# Altium integrated library Linear Technology Power Management Switching Regulator LTC1174-LTC3901.IntLib: 2647 symbols (part 220 of 364)
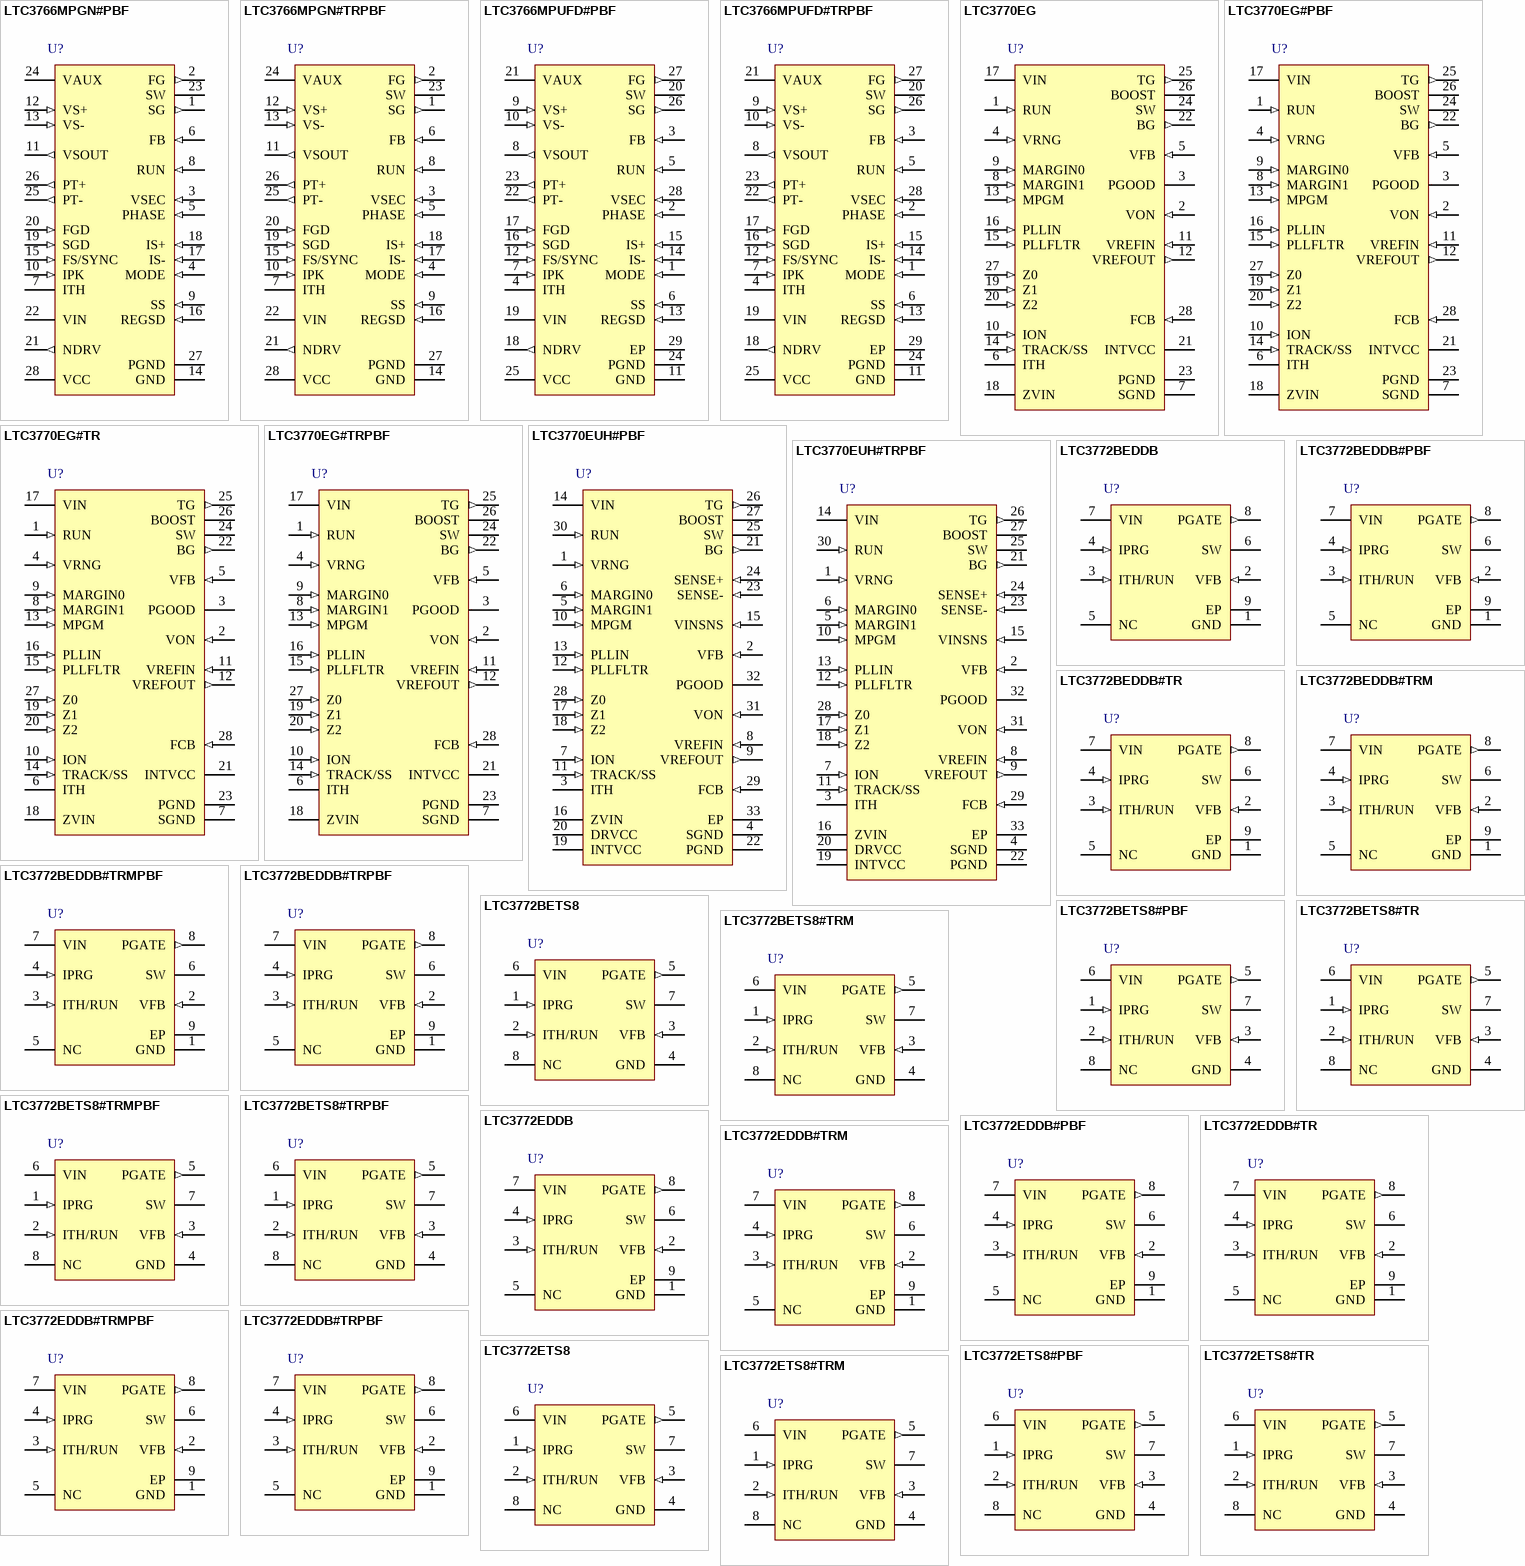
[diagram p229: symbols LTC3766MPGN#PBF to LTC3772ETS8#TRM]

## LTC3770EG#PBF
designator U?
Fast No Rsense Step-Down Synchronous Controller with Margining, Tracking and PLL, 28-pin SOP (G-28), -40 to 85 degC, Pb-Free; Manufacturer: Linear Technology; PartNumber: LTC3770EG#PBF; Frequency Sync Range: Up to 1MHz; Number of Outputs: 1; DatasheetVersion: Rev. C; PackageVersion: Jun-10; PackageReference: G-28; PackageDescription: 28-Pin Plastic SSOP, Body 10.2 x 5.3 mm, Pitch 0.65 mm; Supplier 1: Digi-Key; Supplier Part Number 1: LTC3770EG#PBF-ND; Supplier 2: Newark; Supplier Part Number 2: 56M8358; RoHS: TRUE; Mounting Technology: Surface Mount; ComponentLink1Description: Manufacturer URL; ComponentLink1URL: http://www.linear.com/; ComponentLink2Description: Datasheet; ComponentLink2URL: http://cds.linear.com/docs/en/datasheet/3770fc.pdf; ComponentLink3Description: Package Specification; ComponentLink3URL: http://cds.linear.com/docs/en/packaging/SSOP_28_05-08-1640.pdf
footprint LT-G-28_N (SOP, 28-Leads, Body 10.2x5.3mm, Pitch 0.65mm, IPC Medium Density)
footprint LT-G-28_L (SOP, 28-Leads, Body 10.2x5.3mm, Pitch 0.65mm, IPC High Density)
footprint LT-G-28_M (SOP, 28-Leads, Body 10.2x5.3mm, Pitch 0.65mm, IPC Low Density)
pins: 1 RUN (in) "Run Control Input. A voltage above 1.5V turns on the IC. Forcing this pin below 1.5V shuts down the device.", 2 VON (in) "On-Time Voltage Input. Connecting this pin to the output voltage makes the on-time proportional to VOUT. The comparator input defaults to 0.6V when the pin is grounded and defaults to 4.8V when the pin is tied to INTVCC.", 3 PGOOD (oc) "Power Good Output. Open drain logic output that is pulled to ground when the output voltage is not within +/-10% of the regulation point, after the internal 25us power bad mask timer expires.", 4 VRNG (in) "Sense Voltage Range Input. The voltage at this pin is ten times the nominal sense voltage at maximum output current and can be set from 0.5V to 2V by a resistive divider from INTVCC. The nominal sense voltage defaults to (See Datasheet)", 5 VFB (in) "Error Amplifier Feedback Input. This pin connects the error amplifier input to an external resistive divider from VOUT.", 6 ITH "Current Control Threshold and Error Amplifier Compensation Point. The current comparator threshold increases with this control voltage. The voltage ranges from 0V to 2.4V with 0.75V corresponding to zero sense voltage (zero (See Datasheet)", 7 SGND (power) "Signal Ground. All small-signal components and compensation components should connect to this ground, which in turn connects to PGND at one point.", 8 MARGIN1 (in) "The MSB Logic Input for the Margining Function. Together with the MARGIN0 pin determines whether the IC is in margin high, margin low, or no margin state. This pin has a 50k internal pull-down resistor.", 9 MARGIN0 (in) "The LSB Logic Input for the Margining Function. Together with the MARGIN1 pin determines whether the IC is in margin high, margin low, or no margin state. This pin has a 50k internal pull-down resistor.", 10 ION (in) "On-Time Current Input. Tie a resistor from this pin to ground to set the one-shot timer current and thereby set the switching frequency.", 11 VREFIN (in) "Error Amplifier Reference Input. The voltage at this pin must be greater than 0.5V and less than 1V.", 12 VREFOUT (out) "Buffered Internal 0.6V Reference Output. The maximum current sinking limit is 50uA at this pin. Do not put a filter capacitor larger than 100pF on this pin.", 13 MPGM (in) "Programmable Margining Input. A resistor from this pin to ground sets the margining current. This current, together with the resistor between the VREFOUT and VREFIN pins, determines the margining voltage offset.", 14 TRACK/SS (in) "Output Voltage Tracking and Soft-Start Input. When the IC is confi gured to be the master of two outputs, a capacitor to ground at this pin sets the ramp rate for the output voltage. When the IC is configured to be the slave (See Datasheet)", 15 PLLFLTR (in) "The Phase-Locked Loop’s Lowpass Filter is Tied to This Pin. The voltage at this pin defaults to 1.18V when the IC is not synchronized with an external clock at the PLLIN pin.", 16 PLLIN (in) "External Synchronization Input to Phase Detector. This pin is internally terminated to SGND with a 50k resistor.", 17 VIN (power) "Main Input Supply. Decouple this pin to PGND with a capacitor (0.1uF to 1uF).", 18 ZVIN (power) "Post-Package Zener-Trim Voltage Input. Under normal conditions this pin should always be connected to INTVCC.", 19 Z1 (in) "Post-Package Zener-Trim Control. This pin is a multifunctional pin used in production for post-package trimming and tracking. Ground this pin under normal soft-start operation. Connecting this pin to INTVCC will turn off the (See Datasheet)", 20 Z2 (in) "Post-Package Zener-Trim Control. This pin is used in production for Post-Package trimming. Ground this pin or tie to INTVCC under normal operation.", 21 INTVCC (power) "Internal 5V Regulator Output. The control circuits are powered from this voltage. Decouple this pin to PGND with a minimum of 4.7uF low ESR tantalum or ceramic capacitor.", 22 BG (out) "Bottom Gate Driver Output. This pin drives the gate of the bottom N-channel MOSFET between ground and INTVCC.", 23 PGND (power) "Power Ground. Connect this pin closely to the source of the bottom N-channel MOSFET, the (-) terminal of CVCC and the (-) terminal of CIN.", 24 SW "Switch Node. The (-) terminal of the boot-strap capacitor CB connects here. This pin swings from a diode voltage drop below ground up to VIN.", 25 TG (out) "Top Gate Drive Output. This pin drives the top N-channel MOSFET with a voltage swing equal to INTVCC, superimposed on the switch node voltage SW.", 26 BOOST "Boosted Floating Driver Supply. The (+) terminal of the boot-strap capacitor CB connects here. This pin swings from a diode voltage drop below INTVCC up to VIN + INTVCC.", 27 Z0 (in) "Dead Time Control Input. Applying a DC voltage will vary the dead time between TG-Low and BG-High transition. Do not force a voltage higher than 5V on this pin.", 28 FCB (in) "Forced Continuous Input. Connect this pin to SGND to forced continuous synchronization operation at low load, to INTVCC to enable discontinuous mode operation at low load or to a resistive divider from a secondary output (See Datasheet)"

## LTC3770EG#TR
designator U?
Fast No Rsense Step-Down Synchronous Controller with Margining, Tracking and PLL, 28-pin SOP (G-28), -40 to 85 degC, Tape and Reel; Manufacturer: Linear Technology; PartNumber: LTC3770EG#TR; Frequency Sync Range: Up to 1MHz; Number of Outputs: 1; DatasheetVersion: Rev. C; PackageVersion: Jun-10; PackageReference: G-28; PackageDescription: 28-Pin Plastic SSOP, Body 10.2 x 5.3 mm, Pitch 0.65 mm; Packing: Tape and Reel; RoHS: FALSE; Mounting Technology: Surface Mount; ComponentLink1Description: Manufacturer URL; ComponentLink1URL: http://www.linear.com/; ComponentLink2Description: Datasheet; ComponentLink2URL: http://cds.linear.com/docs/en/datasheet/3770fc.pdf; ComponentLink3Description: Package Specification; ComponentLink3URL: http://cds.linear.com/docs/en/packaging/SSOP_28_05-08-1640.pdf
footprint LT-G-28_N (SOP, 28-Leads, Body 10.2x5.3mm, Pitch 0.65mm, IPC Medium Density)
footprint LT-G-28_L (SOP, 28-Leads, Body 10.2x5.3mm, Pitch 0.65mm, IPC High Density)
footprint LT-G-28_M (SOP, 28-Leads, Body 10.2x5.3mm, Pitch 0.65mm, IPC Low Density)
pins: 1 RUN (in) "Run Control Input. A voltage above 1.5V turns on the IC. Forcing this pin below 1.5V shuts down the device.", 2 VON (in) "On-Time Voltage Input. Connecting this pin to the output voltage makes the on-time proportional to VOUT. The comparator input defaults to 0.6V when the pin is grounded and defaults to 4.8V when the pin is tied to INTVCC.", 3 PGOOD (oc) "Power Good Output. Open drain logic output that is pulled to ground when the output voltage is not within +/-10% of the regulation point, after the internal 25us power bad mask timer expires.", 4 VRNG (in) "Sense Voltage Range Input. The voltage at this pin is ten times the nominal sense voltage at maximum output current and can be set from 0.5V to 2V by a resistive divider from INTVCC. The nominal sense voltage defaults to (See Datasheet)", 5 VFB (in) "Error Amplifier Feedback Input. This pin connects the error amplifier input to an external resistive divider from VOUT.", 6 ITH "Current Control Threshold and Error Amplifier Compensation Point. The current comparator threshold increases with this control voltage. The voltage ranges from 0V to 2.4V with 0.75V corresponding to zero sense voltage (zero (See Datasheet)", 7 SGND (power) "Signal Ground. All small-signal components and compensation components should connect to this ground, which in turn connects to PGND at one point.", 8 MARGIN1 (in) "The MSB Logic Input for the Margining Function. Together with the MARGIN0 pin determines whether the IC is in margin high, margin low, or no margin state. This pin has a 50k internal pull-down resistor.", 9 MARGIN0 (in) "The LSB Logic Input for the Margining Function. Together with the MARGIN1 pin determines whether the IC is in margin high, margin low, or no margin state. This pin has a 50k internal pull-down resistor.", 10 ION (in) "On-Time Current Input. Tie a resistor from this pin to ground to set the one-shot timer current and thereby set the switching frequency.", 11 VREFIN (in) "Error Amplifier Reference Input. The voltage at this pin must be greater than 0.5V and less than 1V.", 12 VREFOUT (out) "Buffered Internal 0.6V Reference Output. The maximum current sinking limit is 50uA at this pin. Do not put a filter capacitor larger than 100pF on this pin.", 13 MPGM (in) "Programmable Margining Input. A resistor from this pin to ground sets the margining current. This current, together with the resistor between the VREFOUT and VREFIN pins, determines the margining voltage offset.", 14 TRACK/SS (in) "Output Voltage Tracking and Soft-Start Input. When the IC is confi gured to be the master of two outputs, a capacitor to ground at this pin sets the ramp rate for the output voltage. When the IC is configured to be the slave (See Datasheet)", 15 PLLFLTR (in) "The Phase-Locked Loop’s Lowpass Filter is Tied to This Pin. The voltage at this pin defaults to 1.18V when the IC is not synchronized with an external clock at the PLLIN pin.", 16 PLLIN (in) "External Synchronization Input to Phase Detector. This pin is internally terminated to SGND with a 50k resistor.", 17 VIN (power) "Main Input Supply. Decouple this pin to PGND with a capacitor (0.1uF to 1uF).", 18 ZVIN (power) "Post-Package Zener-Trim Voltage Input. Under normal conditions this pin should always be connected to INTVCC.", 19 Z1 (in) "Post-Package Zener-Trim Control. This pin is a multifunctional pin used in production for post-package trimming and tracking. Ground this pin under normal soft-start operation. Connecting this pin to INTVCC will turn off the (See Datasheet)", 20 Z2 (in) "Post-Package Zener-Trim Control. This pin is used in production for Post-Package trimming. Ground this pin or tie to INTVCC under normal operation.", 21 INTVCC (power) "Internal 5V Regulator Output. The control circuits are powered from this voltage. Decouple this pin to PGND with a minimum of 4.7uF low ESR tantalum or ceramic capacitor.", 22 BG (out) "Bottom Gate Driver Output. This pin drives the gate of the bottom N-channel MOSFET between ground and INTVCC.", 23 PGND (power) "Power Ground. Connect this pin closely to the source of the bottom N-channel MOSFET, the (-) terminal of CVCC and the (-) terminal of CIN.", 24 SW "Switch Node. The (-) terminal of the boot-strap capacitor CB connects here. This pin swings from a diode voltage drop below ground up to VIN.", 25 TG (out) "Top Gate Drive Output. This pin drives the top N-channel MOSFET with a voltage swing equal to INTVCC, superimposed on the switch node voltage SW.", 26 BOOST "Boosted Floating Driver Supply. The (+) terminal of the boot-strap capacitor CB connects here. This pin swings from a diode voltage drop below INTVCC up to VIN + INTVCC.", 27 Z0 (in) "Dead Time Control Input. Applying a DC voltage will vary the dead time between TG-Low and BG-High transition. Do not force a voltage higher than 5V on this pin.", 28 FCB (in) "Forced Continuous Input. Connect this pin to SGND to forced continuous synchronization operation at low load, to INTVCC to enable discontinuous mode operation at low load or to a resistive divider from a secondary output (See Datasheet)"

## LTC3770EG#TRPBF
designator U?
Fast No Rsense Step-Down Synchronous Controller with Margining, Tracking and PLL, 28-pin SOP (G-28), -40 to 85 degC, Pb-Free, Tape and Reel; Manufacturer: Linear Technology; PartNumber: LTC3770EG#TRPBF; Frequency Sync Range: Up to 1MHz; Number of Outputs: 1; DatasheetVersion: Rev. C; PackageVersion: Jun-10; PackageReference: G-28; PackageDescription: 28-Pin Plastic SSOP, Body 10.2 x 5.3 mm, Pitch 0.65 mm; Supplier 1: Digi-Key; Supplier Part Number 1: LTC3770EG#TRPBF-ND; Packing: Tape and Reel; RoHS: TRUE; Mounting Technology: Surface Mount; ComponentLink1Description: Manufacturer URL; ComponentLink1URL: http://www.linear.com/; ComponentLink2Description: Datasheet; ComponentLink2URL: http://cds.linear.com/docs/en/datasheet/3770fc.pdf; ComponentLink3Description: Package Specification; ComponentLink3URL: http://cds.linear.com/docs/en/packaging/SSOP_28_05-08-1640.pdf
footprint LT-G-28_N (SOP, 28-Leads, Body 10.2x5.3mm, Pitch 0.65mm, IPC Medium Density)
footprint LT-G-28_L (SOP, 28-Leads, Body 10.2x5.3mm, Pitch 0.65mm, IPC High Density)
footprint LT-G-28_M (SOP, 28-Leads, Body 10.2x5.3mm, Pitch 0.65mm, IPC Low Density)
pins: 1 RUN (in) "Run Control Input. A voltage above 1.5V turns on the IC. Forcing this pin below 1.5V shuts down the device.", 2 VON (in) "On-Time Voltage Input. Connecting this pin to the output voltage makes the on-time proportional to VOUT. The comparator input defaults to 0.6V when the pin is grounded and defaults to 4.8V when the pin is tied to INTVCC.", 3 PGOOD (oc) "Power Good Output. Open drain logic output that is pulled to ground when the output voltage is not within +/-10% of the regulation point, after the internal 25us power bad mask timer expires.", 4 VRNG (in) "Sense Voltage Range Input. The voltage at this pin is ten times the nominal sense voltage at maximum output current and can be set from 0.5V to 2V by a resistive divider from INTVCC. The nominal sense voltage defaults to (See Datasheet)", 5 VFB (in) "Error Amplifier Feedback Input. This pin connects the error amplifier input to an external resistive divider from VOUT.", 6 ITH "Current Control Threshold and Error Amplifier Compensation Point. The current comparator threshold increases with this control voltage. The voltage ranges from 0V to 2.4V with 0.75V corresponding to zero sense voltage (zero (See Datasheet)", 7 SGND (power) "Signal Ground. All small-signal components and compensation components should connect to this ground, which in turn connects to PGND at one point.", 8 MARGIN1 (in) "The MSB Logic Input for the Margining Function. Together with the MARGIN0 pin determines whether the IC is in margin high, margin low, or no margin state. This pin has a 50k internal pull-down resistor.", 9 MARGIN0 (in) "The LSB Logic Input for the Margining Function. Together with the MARGIN1 pin determines whether the IC is in margin high, margin low, or no margin state. This pin has a 50k internal pull-down resistor.", 10 ION (in) "On-Time Current Input. Tie a resistor from this pin to ground to set the one-shot timer current and thereby set the switching frequency.", 11 VREFIN (in) "Error Amplifier Reference Input. The voltage at this pin must be greater than 0.5V and less than 1V.", 12 VREFOUT (out) "Buffered Internal 0.6V Reference Output. The maximum current sinking limit is 50uA at this pin. Do not put a filter capacitor larger than 100pF on this pin.", 13 MPGM (in) "Programmable Margining Input. A resistor from this pin to ground sets the margining current. This current, together with the resistor between the VREFOUT and VREFIN pins, determines the margining voltage offset.", 14 TRACK/SS (in) "Output Voltage Tracking and Soft-Start Input. When the IC is confi gured to be the master of two outputs, a capacitor to ground at this pin sets the ramp rate for the output voltage. When the IC is configured to be the slave (See Datasheet)", 15 PLLFLTR (in) "The Phase-Locked Loop’s Lowpass Filter is Tied to This Pin. The voltage at this pin defaults to 1.18V when the IC is not synchronized with an external clock at the PLLIN pin.", 16 PLLIN (in) "External Synchronization Input to Phase Detector. This pin is internally terminated to SGND with a 50k resistor.", 17 VIN (power) "Main Input Supply. Decouple this pin to PGND with a capacitor (0.1uF to 1uF).", 18 ZVIN (power) "Post-Package Zener-Trim Voltage Input. Under normal conditions this pin should always be connected to INTVCC.", 19 Z1 (in) "Post-Package Zener-Trim Control. This pin is a multifunctional pin used in production for post-package trimming and tracking. Ground this pin under normal soft-start operation. Connecting this pin to INTVCC will turn off the (See Datasheet)", 20 Z2 (in) "Post-Package Zener-Trim Control. This pin is used in production for Post-Package trimming. Ground this pin or tie to INTVCC under normal operation.", 21 INTVCC (power) "Internal 5V Regulator Output. The control circuits are powered from this voltage. Decouple this pin to PGND with a minimum of 4.7uF low ESR tantalum or ceramic capacitor.", 22 BG (out) "Bottom Gate Driver Output. This pin drives the gate of the bottom N-channel MOSFET between ground and INTVCC.", 23 PGND (power) "Power Ground. Connect this pin closely to the source of the bottom N-channel MOSFET, the (-) terminal of CVCC and the (-) terminal of CIN.", 24 SW "Switch Node. The (-) terminal of the boot-strap capacitor CB connects here. This pin swings from a diode voltage drop below ground up to VIN.", 25 TG (out) "Top Gate Drive Output. This pin drives the top N-channel MOSFET with a voltage swing equal to INTVCC, superimposed on the switch node voltage SW.", 26 BOOST "Boosted Floating Driver Supply. The (+) terminal of the boot-strap capacitor CB connects here. This pin swings from a diode voltage drop below INTVCC up to VIN + INTVCC.", 27 Z0 (in) "Dead Time Control Input. Applying a DC voltage will vary the dead time between TG-Low and BG-High transition. Do not force a voltage higher than 5V on this pin.", 28 FCB (in) "Forced Continuous Input. Connect this pin to SGND to forced continuous synchronization operation at low load, to INTVCC to enable discontinuous mode operation at low load or to a resistive divider from a secondary output (See Datasheet)"

## LTC3770EUH#PBF
designator U?
Fast No Rsense Step-Down Synchronous Controller with Margining, Tracking and PLL, 32-pin QFN (UH-32), -40 to 85 degC, Pb-Free; Manufacturer: Linear Technology; PartNumber: LTC3770EUH#PBF; Frequency Sync Range: Up to 1MHz; Number of Outputs: 1; DatasheetVersion: Rev. C; PackageVersion: Rev. D, 06/2010; PackageReference: UH-32; PackageDescription: 32-Pin Plastic QFN, Body 5 x 5 mm, Pitch 0.5 mm; Supplier 1: Digi-Key; Supplier Part Number 1: LTC3770EUH#PBF-ND; Supplier 2: Newark; Supplier Part Number 2: 56M8360; RoHS: TRUE; Mounting Technology: Surface Mount; Code_JEDEC: MO-220; ComponentLink1Description: Manufacturer URL; ComponentLink1URL: http://www.linear.com/; ComponentLink2Description: Datasheet; ComponentLink2URL: http://cds.linear.com/docs/en/datasheet/3770fc.pdf; ComponentLink3Description: Package Specification; ComponentLink3URL: http://cds.linear.com/docs/en/packaging/QFN_32_05-08-1693.pdf
footprint LT-UH-32_N (QFN, 32-Leads, Body 5.1x5.1mm, Pitch 0.5mm, Thermal Pad 3.45X3.45mm, IPC Medium Density)
footprint LT-UH-32_L (QFN, 32-Leads, Body 5.1x5.1mm, Pitch 0.5mm, Thermal Pad 3.45X3.45mm, IPC High Density)
footprint LT-UH-32_M (QFN, 32-Leads, Body 5.1x5.1mm, Pitch 0.5mm, Thermal Pad 3.45X3.45mm, IPC Low Density)
pins: 1 VRNG (in) "Sense Voltage Range Input. The voltage at this pin is ten times the nominal sense voltage at maximum output current and can be set from 0.5V to 2V by a resistive divider from INTVCC. The nominal sense voltage defaults to (See Datasheet)", 2 VFB (in) "Error Amplifier Feedback Input. This pin connects the error Amplifier input to an external resistive divider from VOUT.", 3 ITH "Current Control Threshold and Error Amplifier Compensation Point. The current comparator threshold increases with this control voltage. The voltage ranges from 0V to 2.4V with 0.75V corresponding to zero sense voltage (zero (See Datasheet)", 4 SGND (power) "Signal Ground. All small-signal components and compensation components should connect to this ground, which in turn connects to PGND at one point.", 5 MARGIN1 (in) "The MSB Logic Input for the Margining Function. Together with the MARGIN0 pin determines whether the IC is in margin high, margin low, or no margin state. This pin has a 50k internal pull-down resistor.", 6 MARGIN0 (in) "The LSB Logic Input for the Margining Function. Together with the MARGIN1 pin determines whether the IC is in margin high, margin low, or no margin state. This pin has a 50k internal pull-down resistor.", 7 ION (in) "On-Time Current Input. Tie a resistor from this pin to ground to set the one-shot timer current and thereby set the switching frequency.", 8 VREFIN (in) "Error Amplifier Reference Input. The voltage at this pin must be greater than 0.5V and less than 1V.", 9 VREFOUT (out) "Buffered Internal 0.6V Reference Output. The maximum current sinking limit is 50uA at this pin. Do not put a filter capacitor larger than 100pF on this pin.", 10 MPGM (in) "Programmable Margining Input. A resistor from this pin to ground sets the margining current. This current, together with the resistor between the VREFOUT and VREFIN pins, determines the margining voltage offset.", 11 TRACK/SS (in), 12 PLLFLTR (in) "The Phase-Locked Loop’s Lowpass Filter is Tied to This Pin. The voltage at this pin defaults to 1.18V when the IC is not synchronized with an external clock at the PLLIN pin.", 13 PLLIN (in) "External Synchronization Input to Phase Detector. This pin is internally terminated to SGND with a 50k resistor.", 14 VIN (power) "Main Input Supply. Decouple this pin to PGND with a capacitor (0.1uF to 1uF).", 15 VINSNS (in) "VIN Voltage Sense Input. Normally this pin is tied to VIN. However, in certain applications when the IC is powered from a separate supply, VINSNS is tied to the upper MOSFET supply to sense the VIN voltage. The pin is (See Datasheet)", 16 ZVIN (power) "Post-Package Zener-Trim Voltage Input. Under normal conditions this pin should always be connected to INTVCC.", 17 Z1 (in) "Post-Package Zener-Trim Control. This pin is a multifunctional pin used in production for post-package trimming and tracking. Ground this pin under normal soft-start operation. Connecting this pin to INTVCC will turn off the (See Datasheet)", 18 Z2 (in) "Post-Package Zener-Trim Control. This pin is used in production for Post-Package trimming. Ground this pin or tie to INTVCC under normal operation.", 19 INTVCC (power) "Internal 5V Regulator Output. The control circuits are powered from this voltage. Decouple this pin to PGND with a minimum of 4.7uF low ESR tantalum or ceramic capacitor.", 20 DRVCC (power) "Driver Voltage Input. Must be connected to INTVCC externally. Do not exceed 7V at this pin. This pin is co-bonded to INTVCC internally in the SSOP package.", 21 BG (out) "Bottom Gate Driver Output. This pin drives the gate of the bottom N-channel MOSFET between ground and INTVCC.", 22 PGND (power) "Power Ground. Connect this pin closely to the source of the bottom N-channel MOSFET, the (-) terminal of CVCC and the (-) terminal of CIN.", 23 SENSE- (in) "Current Sense Comparator Input. The (-) input to the current comparator is used to accurately Kelvin sense the bottom side of the sense resistor or MOSFET. This pin is co-bonded with PGND internally in the SSOP package.", 24 SENSE+ (in) "Current Sense Comparator Input. The (+) input to the current comparator is normally connected to the SW node unless using a sense resistor. This pin is co-bonded with SW internally in the SSOP package.", 25 SW "Switch Node. The (-) terminal of the boot-strap capacitor CB connects here. This pin swings from a diode voltage drop below ground up to VIN.", 26 TG (out) "Top Gate Drive Output. This pin drives the top N-channel MOSFET with a voltage swing equal to INTVCC, superimposed on the switch node voltage SW.", 27 BOOST "Boosted Floating Driver Supply. The (+) terminal of the boot-strap capacitor CB connects here. This pin swings from a diode voltage drop below INTVCC up to VIN + INTVCC.", 28 Z0 (in) "Dead Time Control Input. Applying a DC voltage will vary the dead time between TG-Low and BG-High transition. Do not force a voltage higher than 5V on this pin.", 29 FCB (in) "Forced Continuous Input. Connect this pin to SGND to forced continuous synchronization operation at low load, to INTVCC to enable discontinuous mode operation at low load or to a resistive divider from a secondary output (See Datasheet)", 30 RUN (in) "Run Control Input. A voltage above 1.5V turns on the IC. Forcing this pin below 1.5V shuts down the device.", 31 VON (in) "On-Time Voltage Input. Connecting this pin to the output voltage makes the on-time proportional to VOUT. The comparator input defaults to 0.6V when the pin is grounded and defaults to 4.8V when the pin is tied to INTVCC.", 32 PGOOD (oc) "Power Good Output. Open drain logic output that is pulled to ground when the output voltage is not within +/-10% of the regulation point, after the internal 25us power bad mask timer expires.", 33 EP (power) "Signal Ground. Must be soldered to the PCB ground for electrical contact and optimum thermal performance."

## LTC3770EUH#TRPBF
designator U?
Fast No Rsense Step-Down Synchronous Controller with Margining, Tracking and PLL, 32-pin QFN (UH-32), -40 to 85 degC, Pb-Free, Tape and Reel; Manufacturer: Linear Technology; PartNumber: LTC3770EUH#TRPBF; Frequency Sync Range: Up to 1MHz; Number of Outputs: 1; DatasheetVersion: Rev. C; PackageVersion: Rev. D, 06/2010; PackageReference: UH-32; PackageDescription: 32-Pin Plastic QFN, Body 5 x 5 mm, Pitch 0.5 mm; Supplier 1: Digi-Key; Supplier Part Number 1: LTC3770EUH#TRPBF-ND; Supplier 2: Newark; Supplier Part Number 2: 56M8361; Packing: Tape and Reel; RoHS: TRUE; Mounting Technology: Surface Mount; Code_JEDEC: MO-220; ComponentLink1Description: Manufacturer URL; ComponentLink1URL: http://www.linear.com/; ComponentLink2Description: Datasheet; ComponentLink2URL: http://cds.linear.com/docs/en/datasheet/3770fc.pdf; ComponentLink3Description: Package Specification; ComponentLink3URL: http://cds.linear.com/docs/en/packaging/QFN_32_05-08-1693.pdf
footprint LT-UH-32_N (QFN, 32-Leads, Body 5.1x5.1mm, Pitch 0.5mm, Thermal Pad 3.45X3.45mm, IPC Medium Density)
footprint LT-UH-32_L (QFN, 32-Leads, Body 5.1x5.1mm, Pitch 0.5mm, Thermal Pad 3.45X3.45mm, IPC High Density)
footprint LT-UH-32_M (QFN, 32-Leads, Body 5.1x5.1mm, Pitch 0.5mm, Thermal Pad 3.45X3.45mm, IPC Low Density)
pins: 1 VRNG (in) "Sense Voltage Range Input. The voltage at this pin is ten times the nominal sense voltage at maximum output current and can be set from 0.5V to 2V by a resistive divider from INTVCC. The nominal sense voltage defaults to (See Datasheet)", 2 VFB (in) "Error Amplifier Feedback Input. This pin connects the error Amplifier input to an external resistive divider from VOUT.", 3 ITH "Current Control Threshold and Error Amplifier Compensation Point. The current comparator threshold increases with this control voltage. The voltage ranges from 0V to 2.4V with 0.75V corresponding to zero sense voltage (zero (See Datasheet)", 4 SGND (power) "Signal Ground. All small-signal components and compensation components should connect to this ground, which in turn connects to PGND at one point.", 5 MARGIN1 (in) "The MSB Logic Input for the Margining Function. Together with the MARGIN0 pin determines whether the IC is in margin high, margin low, or no margin state. This pin has a 50k internal pull-down resistor.", 6 MARGIN0 (in) "The LSB Logic Input for the Margining Function. Together with the MARGIN1 pin determines whether the IC is in margin high, margin low, or no margin state. This pin has a 50k internal pull-down resistor.", 7 ION (in) "On-Time Current Input. Tie a resistor from this pin to ground to set the one-shot timer current and thereby set the switching frequency.", 8 VREFIN (in) "Error Amplifier Reference Input. The voltage at this pin must be greater than 0.5V and less than 1V.", 9 VREFOUT (out) "Buffered Internal 0.6V Reference Output. The maximum current sinking limit is 50uA at this pin. Do not put a filter capacitor larger than 100pF on this pin.", 10 MPGM (in) "Programmable Margining Input. A resistor from this pin to ground sets the margining current. This current, together with the resistor between the VREFOUT and VREFIN pins, determines the margining voltage offset.", 11 TRACK/SS (in), 12 PLLFLTR (in) "The Phase-Locked Loop’s Lowpass Filter is Tied to This Pin. The voltage at this pin defaults to 1.18V when the IC is not synchronized with an external clock at the PLLIN pin.", 13 PLLIN (in) "External Synchronization Input to Phase Detector. This pin is internally terminated to SGND with a 50k resistor.", 14 VIN (power) "Main Input Supply. Decouple this pin to PGND with a capacitor (0.1uF to 1uF).", 15 VINSNS (in) "VIN Voltage Sense Input. Normally this pin is tied to VIN. However, in certain applications when the IC is powered from a separate supply, VINSNS is tied to the upper MOSFET supply to sense the VIN voltage. The pin is (See Datasheet)", 16 ZVIN (power) "Post-Package Zener-Trim Voltage Input. Under normal conditions this pin should always be connected to INTVCC.", 17 Z1 (in) "Post-Package Zener-Trim Control. This pin is a multifunctional pin used in production for post-package trimming and tracking. Ground this pin under normal soft-start operation. Connecting this pin to INTVCC will turn off the (See Datasheet)", 18 Z2 (in) "Post-Package Zener-Trim Control. This pin is used in production for Post-Package trimming. Ground this pin or tie to INTVCC under normal operation.", 19 INTVCC (power) "Internal 5V Regulator Output. The control circuits are powered from this voltage. Decouple this pin to PGND with a minimum of 4.7uF low ESR tantalum or ceramic capacitor.", 20 DRVCC (power) "Driver Voltage Input. Must be connected to INTVCC externally. Do not exceed 7V at this pin. This pin is co-bonded to INTVCC internally in the SSOP package.", 21 BG (out) "Bottom Gate Driver Output. This pin drives the gate of the bottom N-channel MOSFET between ground and INTVCC.", 22 PGND (power) "Power Ground. Connect this pin closely to the source of the bottom N-channel MOSFET, the (-) terminal of CVCC and the (-) terminal of CIN.", 23 SENSE- (in) "Current Sense Comparator Input. The (-) input to the current comparator is used to accurately Kelvin sense the bottom side of the sense resistor or MOSFET. This pin is co-bonded with PGND internally in the SSOP package.", 24 SENSE+ (in) "Current Sense Comparator Input. The (+) input to the current comparator is normally connected to the SW node unless using a sense resistor. This pin is co-bonded with SW internally in the SSOP package.", 25 SW "Switch Node. The (-) terminal of the boot-strap capacitor CB connects here. This pin swings from a diode voltage drop below ground up to VIN.", 26 TG (out) "Top Gate Drive Output. This pin drives the top N-channel MOSFET with a voltage swing equal to INTVCC, superimposed on the switch node voltage SW.", 27 BOOST "Boosted Floating Driver Supply. The (+) terminal of the boot-strap capacitor CB connects here. This pin swings from a diode voltage drop below INTVCC up to VIN + INTVCC.", 28 Z0 (in) "Dead Time Control Input. Applying a DC voltage will vary the dead time between TG-Low and BG-High transition. Do not force a voltage higher than 5V on this pin.", 29 FCB (in) "Forced Continuous Input. Connect this pin to SGND to forced continuous synchronization operation at low load, to INTVCC to enable discontinuous mode operation at low load or to a resistive divider from a secondary output (See Datasheet)", 30 RUN (in) "Run Control Input. A voltage above 1.5V turns on the IC. Forcing this pin below 1.5V shuts down the device.", 31 VON (in) "On-Time Voltage Input. Connecting this pin to the output voltage makes the on-time proportional to VOUT. The comparator input defaults to 0.6V when the pin is grounded and defaults to 4.8V when the pin is tied to INTVCC.", 32 PGOOD (oc) "Power Good Output. Open drain logic output that is pulled to ground when the output voltage is not within +/-10% of the regulation point, after the internal 25us power bad mask timer expires.", 33 EP (power) "Signal Ground. Must be soldered to the PCB ground for electrical contact and optimum thermal performance."

## LTC3772BEDDB
designator U?
Micropower No Rsense Constant Frequency Step-Down DC/DC Controller, 8-pin SON (DDB-8), -40 to 85 degC; Manufacturer: Linear Technology; PartNumber: LTC3772BEDDB; Number of Outputs: 1; DatasheetVersion: Rev. A; PackageVersion: Rev. B, 06/2010; PackageReference: DDB-8; PackageDescription: 8-Pin Plastic DFN, Body 3 x 2 mm, Pitch 0.5 mm; RoHS: FALSE; Mounting Technology: Surface Mount; Code_JEDEC: MO-229; ComponentLink1Description: Manufacturer URL; ComponentLink1URL: http://www.linear.com/; ComponentLink2Description: Datasheet; ComponentLink2URL: http://cds.linear.com/docs/en/datasheet/3772bfa.pdf; ComponentLink3Description: Package Specification; ComponentLink3URL: http://cds.linear.com/docs/en/packaging/DFN_8_05-08-1702.pdf
footprint LT-DDB-8_V (SON, 8-Leads, Body 3x2mm, Pitch 0.5mm, Thermal Pad 2.2x0.61mm)
pins: 1 GND (power) "Ground Pin.", 2 VFB (in) "Receives the feedback voltage from an external resistor divider across the output.", 3 ITH/RUN (in) "This pin performs two functions. It serves as the error amplifier compensation point as well as the run control input. Nominal voltage range for this pin is 0.7V to 1.9V. Forcing this pin below 0.6V causes the device to be (See Datasheet)", 4 IPRG (in) "Shutdown and external soft-start pin. In shutdown, all functions are disabled and the NGATE pin is held low.", 5 NC "No Connection Required.", 6 SW "Switch Node Connection to Inductor and Current Sense Input Pin. Normally, the external P-channel MOSFET’s drain is connected to this pin.", 7 VIN (power) "Supply and Current Sense Input Pin. This pin must be closely decoupled to GND (Pin 4). Normally the external P-channel MOSFET’s source is connected to this pin.", 8 PGATE (out) "Gate Drive for the External P-Channel MOSFET. This pin swings from 0V to VIN.", 9 EP (power) "The Exposed Pad is ground and must be soldered to the PCB for electrical connection and optimum thermal performance."

## LTC3772BEDDB#PBF
designator U?
Micropower No Rsense Constant Frequency Step-Down DC/DC Controller, 8-pin SON (DDB-8), -40 to 85 degC, Pb-Free; Manufacturer: Linear Technology; PartNumber: LTC3772BEDDB#PBF; Number of Outputs: 1; DatasheetVersion: Rev. A; PackageVersion: Rev. B, 06/2010; PackageReference: DDB-8; PackageDescription: 8-Pin Plastic DFN, Body 3 x 2 mm, Pitch 0.5 mm; RoHS: TRUE; Mounting Technology: Surface Mount; Code_JEDEC: MO-229; ComponentLink1Description: Manufacturer URL; ComponentLink1URL: http://www.linear.com/; ComponentLink2Description: Datasheet; ComponentLink2URL: http://cds.linear.com/docs/en/datasheet/3772bfa.pdf; ComponentLink3Description: Package Specification; ComponentLink3URL: http://cds.linear.com/docs/en/packaging/DFN_8_05-08-1702.pdf
footprint LT-DDB-8_V (SON, 8-Leads, Body 3x2mm, Pitch 0.5mm, Thermal Pad 2.2x0.61mm)
pins: 1 GND (power) "Ground Pin.", 2 VFB (in) "Receives the feedback voltage from an external resistor divider across the output.", 3 ITH/RUN (in) "This pin performs two functions. It serves as the error amplifier compensation point as well as the run control input. Nominal voltage range for this pin is 0.7V to 1.9V. Forcing this pin below 0.6V causes the device to be (See Datasheet)", 4 IPRG (in) "Shutdown and external soft-start pin. In shutdown, all functions are disabled and the NGATE pin is held low.", 5 NC "No Connection Required.", 6 SW "Switch Node Connection to Inductor and Current Sense Input Pin. Normally, the external P-channel MOSFET’s drain is connected to this pin.", 7 VIN (power) "Supply and Current Sense Input Pin. This pin must be closely decoupled to GND (Pin 4). Normally the external P-channel MOSFET’s source is connected to this pin.", 8 PGATE (out) "Gate Drive for the External P-Channel MOSFET. This pin swings from 0V to VIN.", 9 EP (power) "The Exposed Pad is ground and must be soldered to the PCB for electrical connection and optimum thermal performance."

## LTC3772BEDDB#TR
designator U?
Micropower No Rsense Constant Frequency Step-Down DC/DC Controller, 8-pin SON (DDB-8), -40 to 85 degC, Tape and Reel; Manufacturer: Linear Technology; PartNumber: LTC3772BEDDB#TR; Number of Outputs: 1; DatasheetVersion: Rev. A; PackageVersion: Rev. B, 06/2010; PackageReference: DDB-8; PackageDescription: 8-Pin Plastic DFN, Body 3 x 2 mm, Pitch 0.5 mm; Packing: Tape and Reel; RoHS: FALSE; Mounting Technology: Surface Mount; Code_JEDEC: MO-229; ComponentLink1Description: Manufacturer URL; ComponentLink1URL: http://www.linear.com/; ComponentLink2Description: Datasheet; ComponentLink2URL: http://cds.linear.com/docs/en/datasheet/3772bfa.pdf; ComponentLink3Description: Package Specification; ComponentLink3URL: http://cds.linear.com/docs/en/packaging/DFN_8_05-08-1702.pdf
footprint LT-DDB-8_V (SON, 8-Leads, Body 3x2mm, Pitch 0.5mm, Thermal Pad 2.2x0.61mm)
pins: 1 GND (power) "Ground Pin.", 2 VFB (in) "Receives the feedback voltage from an external resistor divider across the output.", 3 ITH/RUN (in) "This pin performs two functions. It serves as the error amplifier compensation point as well as the run control input. Nominal voltage range for this pin is 0.7V to 1.9V. Forcing this pin below 0.6V causes the device to be (See Datasheet)", 4 IPRG (in) "Shutdown and external soft-start pin. In shutdown, all functions are disabled and the NGATE pin is held low.", 5 NC "No Connection Required.", 6 SW "Switch Node Connection to Inductor and Current Sense Input Pin. Normally, the external P-channel MOSFET’s drain is connected to this pin.", 7 VIN (power) "Supply and Current Sense Input Pin. This pin must be closely decoupled to GND (Pin 4). Normally the external P-channel MOSFET’s source is connected to this pin.", 8 PGATE (out) "Gate Drive for the External P-Channel MOSFET. This pin swings from 0V to VIN.", 9 EP (power) "The Exposed Pad is ground and must be soldered to the PCB for electrical connection and optimum thermal performance."

## LTC3772BEDDB#TRM
designator U?
Micropower No Rsense Constant Frequency Step-Down DC/DC Controller, 8-pin SON (DDB-8), -40 to 85 degC, Mini Tape and Reel; Manufacturer: Linear Technology; PartNumber: LTC3772BEDDB#TRM; Number of Outputs: 1; DatasheetVersion: Rev. A; PackageVersion: Rev. B, 06/2010; PackageReference: DDB-8; PackageDescription: 8-Pin Plastic DFN, Body 3 x 2 mm, Pitch 0.5 mm; Packing: Mini Tape and Reel; RoHS: FALSE; Mounting Technology: Surface Mount; Code_JEDEC: MO-229; ComponentLink1Description: Manufacturer URL; ComponentLink1URL: http://www.linear.com/; ComponentLink2Description: Datasheet; ComponentLink2URL: http://cds.linear.com/docs/en/datasheet/3772bfa.pdf; ComponentLink3Description: Package Specification; ComponentLink3URL: http://cds.linear.com/docs/en/packaging/DFN_8_05-08-1702.pdf
footprint LT-DDB-8_V (SON, 8-Leads, Body 3x2mm, Pitch 0.5mm, Thermal Pad 2.2x0.61mm)
pins: 1 GND (power) "Ground Pin.", 2 VFB (in) "Receives the feedback voltage from an external resistor divider across the output.", 3 ITH/RUN (in) "This pin performs two functions. It serves as the error amplifier compensation point as well as the run control input. Nominal voltage range for this pin is 0.7V to 1.9V. Forcing this pin below 0.6V causes the device to be (See Datasheet)", 4 IPRG (in) "Shutdown and external soft-start pin. In shutdown, all functions are disabled and the NGATE pin is held low.", 5 NC "No Connection Required.", 6 SW "Switch Node Connection to Inductor and Current Sense Input Pin. Normally, the external P-channel MOSFET’s drain is connected to this pin.", 7 VIN (power) "Supply and Current Sense Input Pin. This pin must be closely decoupled to GND (Pin 4). Normally the external P-channel MOSFET’s source is connected to this pin.", 8 PGATE (out) "Gate Drive for the External P-Channel MOSFET. This pin swings from 0V to VIN.", 9 EP (power) "The Exposed Pad is ground and must be soldered to the PCB for electrical connection and optimum thermal performance."

## LTC3772BEDDB#TRMPBF
designator U?
Micropower No Rsense Constant Frequency Step-Down DC/DC Controller, 8-pin SON (DDB-8), -40 to 85 degC, Pb-Free, Mini Tape and Reel; Manufacturer: Linear Technology; PartNumber: LTC3772BEDDB#TRMPBF; Number of Outputs: 1; DatasheetVersion: Rev. A; PackageVersion: Rev. B, 06/2010; PackageReference: DDB-8; PackageDescription: 8-Pin Plastic DFN, Body 3 x 2 mm, Pitch 0.5 mm; Supplier 1: Digi-Key; Supplier Part Number 1: LTC3772BEDDB#TRMPBF-ND; Packing: Mini Tape and Reel; RoHS: TRUE; Mounting Technology: Surface Mount; Code_JEDEC: MO-229; ComponentLink1Description: Manufacturer URL; ComponentLink1URL: http://www.linear.com/; ComponentLink2Description: Datasheet; ComponentLink2URL: http://cds.linear.com/docs/en/datasheet/3772bfa.pdf; ComponentLink3Description: Package Specification; ComponentLink3URL: http://cds.linear.com/docs/en/packaging/DFN_8_05-08-1702.pdf
footprint LT-DDB-8_V (SON, 8-Leads, Body 3x2mm, Pitch 0.5mm, Thermal Pad 2.2x0.61mm)
pins: 1 GND (power) "Ground Pin.", 2 VFB (in) "Receives the feedback voltage from an external resistor divider across the output.", 3 ITH/RUN (in) "This pin performs two functions. It serves as the error amplifier compensation point as well as the run control input. Nominal voltage range for this pin is 0.7V to 1.9V. Forcing this pin below 0.6V causes the device to be (See Datasheet)", 4 IPRG (in) "Shutdown and external soft-start pin. In shutdown, all functions are disabled and the NGATE pin is held low.", 5 NC "No Connection Required.", 6 SW "Switch Node Connection to Inductor and Current Sense Input Pin. Normally, the external P-channel MOSFET’s drain is connected to this pin.", 7 VIN (power) "Supply and Current Sense Input Pin. This pin must be closely decoupled to GND (Pin 4). Normally the external P-channel MOSFET’s source is connected to this pin.", 8 PGATE (out) "Gate Drive for the External P-Channel MOSFET. This pin swings from 0V to VIN.", 9 EP (power) "The Exposed Pad is ground and must be soldered to the PCB for electrical connection and optimum thermal performance."

## LTC3772BEDDB#TRPBF
designator U?
Micropower No Rsense Constant Frequency Step-Down DC/DC Controller, 8-pin SON (DDB-8), -40 to 85 degC, Pb-Free, Tape and Reel; Manufacturer: Linear Technology; PartNumber: LTC3772BEDDB#TRPBF; Number of Outputs: 1; DatasheetVersion: Rev. A; PackageVersion: Rev. B, 06/2010; PackageReference: DDB-8; PackageDescription: 8-Pin Plastic DFN, Body 3 x 2 mm, Pitch 0.5 mm; Supplier 1: Digi-Key; Supplier Part Number 1: LTC3772BEDDB#TRPBF-ND; Packing: Tape and Reel; RoHS: TRUE; Mounting Technology: Surface Mount; Code_JEDEC: MO-229; ComponentLink1Description: Manufacturer URL; ComponentLink1URL: http://www.linear.com/; ComponentLink2Description: Datasheet; ComponentLink2URL: http://cds.linear.com/docs/en/datasheet/3772bfa.pdf; ComponentLink3Description: Package Specification; ComponentLink3URL: http://cds.linear.com/docs/en/packaging/DFN_8_05-08-1702.pdf
footprint LT-DDB-8_V (SON, 8-Leads, Body 3x2mm, Pitch 0.5mm, Thermal Pad 2.2x0.61mm)
pins: 1 GND (power) "Ground Pin.", 2 VFB (in) "Receives the feedback voltage from an external resistor divider across the output.", 3 ITH/RUN (in) "This pin performs two functions. It serves as the error amplifier compensation point as well as the run control input. Nominal voltage range for this pin is 0.7V to 1.9V. Forcing this pin below 0.6V causes the device to be (See Datasheet)", 4 IPRG (in) "Shutdown and external soft-start pin. In shutdown, all functions are disabled and the NGATE pin is held low.", 5 NC "No Connection Required.", 6 SW "Switch Node Connection to Inductor and Current Sense Input Pin. Normally, the external P-channel MOSFET’s drain is connected to this pin.", 7 VIN (power) "Supply and Current Sense Input Pin. This pin must be closely decoupled to GND (Pin 4). Normally the external P-channel MOSFET’s source is connected to this pin.", 8 PGATE (out) "Gate Drive for the External P-Channel MOSFET. This pin swings from 0V to VIN.", 9 EP (power) "The Exposed Pad is ground and must be soldered to the PCB for electrical connection and optimum thermal performance."

## LTC3772BETS8
designator U?
Micropower No Rsense Constant Frequency Step-Down DC/DC Controller, 8-pin SOT23 (TS8-8), -40 to 85 degC; Manufacturer: Linear Technology; PartNumber: LTC3772BETS8; Number of Outputs: 1; DatasheetVersion: Rev. A; PackageVersion: Rev. A, 08/2010; PackageReference: TS8-8; PackageDescription: 8-Pin Plastic TSOT-23, Body 2.9 x 1.63 mm, Pitch 0.65 mm; RoHS: FALSE; Mounting Technology: Surface Mount; Code_JEDEC: MO-193; ComponentLink1Description: Manufacturer URL; ComponentLink1URL: http://www.linear.com/; ComponentLink2Description: Datasheet; ComponentLink2URL: http://cds.linear.com/docs/en/datasheet/3772bfa.pdf; ComponentLink3Description: Package Specification; ComponentLink3URL: http://cds.linear.com/docs/en/packaging/SOT_8_05-08-1637.pdf
footprint LT-TS8-8-TSOT-23_V (SOT23, 8-Leads, Body 2.9x1.75mm, Pitch 0.65mm)
pins: 1 IPRG (in) "Current Sense Limit Pin. Three-state pin selects maximum peak sense voltage threshold. The pin selects the maximum voltage drop across the external P-channel MOSFET.", 2 ITH/RUN (in) "This pin performs two functions. It serves as the error amplifier compensation point as well as the run control input. Nominal voltage range for this pin is 0.7V to 1.9V. Forcing this pin below 0.6V causes the device to be (See Datasheet)", 3 VFB (in) "Receives the feedback voltage from an external resistor divider across the output.", 4 GND (power) "Ground Pin.", 5 PGATE (out) "Gate Drive for the External P-Channel MOSFET. This pin swings from 0V to VIN.", 6 VIN (power) "Supply and Current Sense Input Pin. This pin must be closely decoupled to GND (Pin 4). Normally the external P-channel MOSFET’s source is connected to this pin.", 7 SW "Switch Node Connection to Inductor and Current Sense Input Pin. Normally, the external P-channel MOSFET’s drain is connected to this pin.", 8 NC "No Connection Required."

## LTC3772BETS8#PBF
designator U?
Micropower No Rsense Constant Frequency Step-Down DC/DC Controller, 8-pin SOT23 (TS8-8), -40 to 85 degC, Pb-Free; Manufacturer: Linear Technology; PartNumber: LTC3772BETS8#PBF; Number of Outputs: 1; DatasheetVersion: Rev. A; PackageVersion: Rev. A, 08/2010; PackageReference: TS8-8; PackageDescription: 8-Pin Plastic TSOT-23, Body 2.9 x 1.63 mm, Pitch 0.65 mm; RoHS: TRUE; Mounting Technology: Surface Mount; Code_JEDEC: MO-193; ComponentLink1Description: Manufacturer URL; ComponentLink1URL: http://www.linear.com/; ComponentLink2Description: Datasheet; ComponentLink2URL: http://cds.linear.com/docs/en/datasheet/3772bfa.pdf; ComponentLink3Description: Package Specification; ComponentLink3URL: http://cds.linear.com/docs/en/packaging/SOT_8_05-08-1637.pdf
footprint LT-TS8-8-TSOT-23_V (SOT23, 8-Leads, Body 2.9x1.75mm, Pitch 0.65mm)
pins: 1 IPRG (in) "Current Sense Limit Pin. Three-state pin selects maximum peak sense voltage threshold. The pin selects the maximum voltage drop across the external P-channel MOSFET.", 2 ITH/RUN (in) "This pin performs two functions. It serves as the error amplifier compensation point as well as the run control input. Nominal voltage range for this pin is 0.7V to 1.9V. Forcing this pin below 0.6V causes the device to be (See Datasheet)", 3 VFB (in) "Receives the feedback voltage from an external resistor divider across the output.", 4 GND (power) "Ground Pin.", 5 PGATE (out) "Gate Drive for the External P-Channel MOSFET. This pin swings from 0V to VIN.", 6 VIN (power) "Supply and Current Sense Input Pin. This pin must be closely decoupled to GND (Pin 4). Normally the external P-channel MOSFET’s source is connected to this pin.", 7 SW "Switch Node Connection to Inductor and Current Sense Input Pin. Normally, the external P-channel MOSFET’s drain is connected to this pin.", 8 NC "No Connection Required."